# Altium footprint library Molex_Connectors_Pcb.PcbLib: 9 footprints
Each footprint in its own frame and in the unit in brackets; x right, y up, seen from the top. Pads: shape width x height; smd on the part's side, far side on the other; paste and mask are expansions set on the pad; w line width, h text height; cw(c..) or ccw(c..) is an arc to the next point about the centre after c.
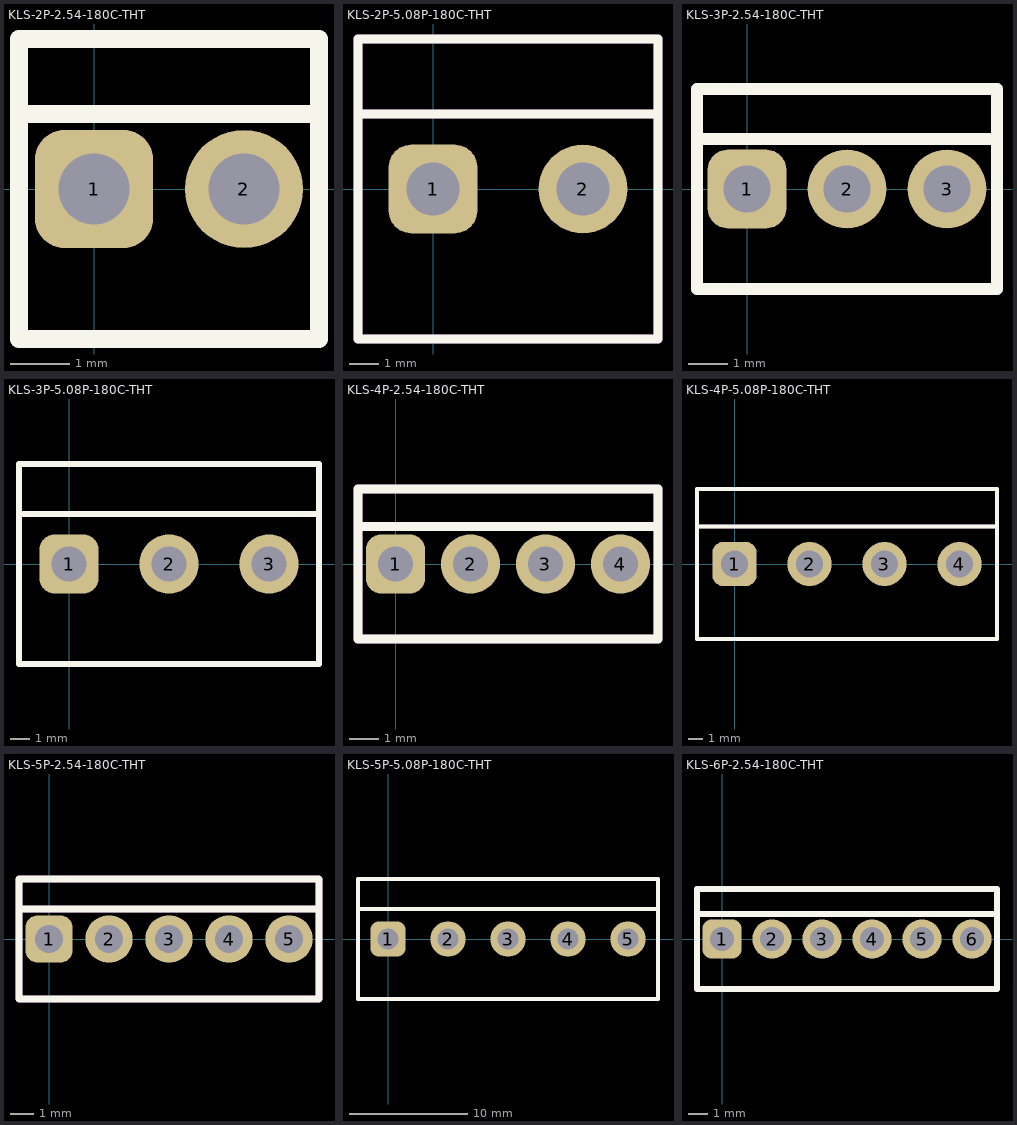
[diagram p0: the footprints below, top view; thin cyan lines are the x and y axes]

## KLS-2P-2.54-180C-THT [mm]
pads (2):
  rrect50% 2x2 hole 1.2: 1(0,0)
  round 2 hole 1.2: 2(2.54,0)
Top Overlay:
  lines w0.3: -1.27,1.27 3.81,1.27 ; -1.27,-2.54 -1.27,0 -1.27,2.54 3.81,2.54 3.81,-2.54 -1.27,-2.54
Mechanical 13:
  lines w0.3: -1.27,1.27 3.81,1.27 ; -1.27,-2.54 -1.27,0 -1.27,2.54 3.81,2.54 3.81,-2.54 -1.27,-2.54
  text ".Designator" at -0.675,-2.091 h1.5
Mechanical 15:
  lines w0.3: -1.27,-2.54 -1.27,0 -1.27,2.54 3.81,2.54 3.81,-2.54 -1.27,-2.54
3D body "User Library-Molex - 2-Pin Header with Lock (0_100in pitch).STEP": height 10.68, standoff -3.54, extent -1.27,-3.175 3.81,3.175

## KLS-2P-5.08P-180C-THT [mm]
pads (2):
  rrect50% 3x3 hole 1.8: 1(0,0)
  round 3 hole 1.8: 2(5.08,0)
Top Overlay:
  lines w0.3: -2.54,2.54 7.62,2.54 ; -2.54,-5.08 7.62,-5.08 7.62,5.08 -2.54,5.08 -2.54,0 -2.54,-5.08
Mechanical 13:
  lines w0.3: -2.54,2.54 7.62,2.54 ; -2.54,-5.08 7.62,-5.08 7.62,5.08 -2.54,5.08 -2.54,0 -2.54,-5.08
  text ".Designator" at -1.31,-3.361 h1.5
Mechanical 15:
  lines w0.3: -2.54,-5.08 7.62,-5.08 7.62,5.08 -2.54,5.08 -2.54,0 -2.54,-5.08
3D body "kls1-5_08P-2P-THT-Vertical.STEP": height 14.51, standoff -2.99, extent -2.54,-5.12 7.62,5.08

## KLS-3P-2.54-180C-THT [mm]
pads (3):
  rrect50% 2x2 hole 1.2: 1(0,0)
  round 2 hole 1.2: 2(2.54,0) 3(5.08,0)
Top Overlay:
  lines w0.3: -1.27,1.27 6.35,1.27 ; -1.27,-2.54 -1.27,0 -1.27,2.54 6.35,2.54 6.35,-2.54 -1.27,-2.54
Mechanical 13:
  lines w0.3: -1.27,1.27 6.35,1.27 ; -1.27,-2.54 -1.27,0 -1.27,2.54 6.35,2.54 6.35,-2.54 -1.27,-2.54
  text ".Designator" at -0.107,-2.094 h1.5
Mechanical 15:
  lines w0.3: -1.27,-2.54 -1.27,0 -1.27,2.54 6.35,2.54 6.35,-2.54 -1.27,-2.54
3D body "molex kk 0_1in latching 3 way vertical header.step": height 11.7, standoff -3.54, extent -1.27,-2.972 6.35,2.87

## KLS-3P-5.08P-180C-THT [mm]
pads (3):
  rrect50% 3x3 hole 1.8: 1(0,0)
  round 3 hole 1.8: 2(5.08,0) 3(10.16,0)
Top Overlay:
  lines w0.3: -2.54,2.54 12.7,2.54 ; -2.54,-5.08 12.7,-5.08 12.7,5.08 -2.54,5.08 -2.54,0 -2.54,-5.08
Mechanical 13:
  lines w0.3: -2.54,2.54 12.7,2.54 ; -2.54,-5.08 12.7,-5.08 12.7,5.08 -2.54,5.08 -2.54,0 -2.54,-5.08
  text ".Designator" at 1.23,-3.361 h1.5
Mechanical 15:
  lines w0.3: -2.54,-5.08 12.7,-5.08 12.7,5.08 -2.54,5.08 -2.54,0 -2.54,-5.08
3D body "kls1-5_08P-3P-THT-Vertical.STEP": height 14.51, standoff -2.99, extent -2.54,-5.12 12.7,5.08

## KLS-4P-2.54-180C-THT [mm]
pads (4):
  rrect50% 2x2 hole 1.2: 1(0,0)
  round 2 hole 1.2: 2(2.54,0) 3(5.08,0) 4(7.62,0)
Top Overlay:
  lines w0.3: -1.27,1.27 8.89,1.27 ; -1.27,-2.54 -1.27,0 -1.27,2.54 8.89,2.54 8.89,-2.54 -1.27,-2.54
Mechanical 13:
  lines w0.3: -1.27,1.27 8.89,1.27 ; -1.27,-2.54 -1.27,0 -1.27,2.54 8.89,2.54 8.89,-2.54 -1.27,-2.54
  text ".Designator" at 0.528,-2.094 h1.5
Mechanical 15:
  lines w0.3: -1.27,-2.54 -1.27,0 -1.27,2.54 8.89,2.54 8.89,-2.54 -1.27,-2.54
3D body "molex kk 0_1in latching 4 way vertical header.step": height 11.7, standoff -3.54, extent -1.27,-2.972 8.89,2.87

## KLS-4P-5.08P-180C-THT [mm]
pads (4):
  rrect50% 3x3 hole 1.8: 1(0,0)
  round 3 hole 1.8: 2(5.08,0) 3(10.16,0) 4(15.24,0)
Top Overlay:
  lines w0.3: -2.54,2.54 17.78,2.54 ; -2.54,-5.08 -2.54,0 -2.54,5.08 17.78,5.08 17.78,-5.08 -2.54,-5.08
Mechanical 13:
  lines w0.3: -2.54,2.54 17.78,2.54 ; -2.54,-5.08 -2.54,0 -2.54,5.08 17.78,5.08 17.78,-5.08 -2.54,-5.08
  text ".Designator" at 3.703,-3.364 h1.5
Mechanical 15:
  lines w0.3: -2.54,-5.08 -2.54,0 -2.54,5.08 17.78,5.08 17.78,-5.08 -2.54,-5.08
3D body "kls1-5_08P-4P-THT-Vertical.STEP": height 14.51, standoff -2.99, extent -2.54,-5.08 17.78,5.12

## KLS-5P-2.54-180C-THT [mm]
pads (5):
  rrect50% 2x2 hole 1.2: 1(0,0)
  round 2 hole 1.2: 2(2.54,0) 3(5.08,0) 4(7.62,0) 5(10.16,0)
Top Overlay:
  lines w0.3: -1.27,1.27 11.43,1.27 ; -1.27,-2.54 -1.27,0 -1.27,2.54 11.43,2.54 11.43,-2.54 -1.27,-2.54
Mechanical 13:
  lines w0.3: -1.27,1.27 11.43,1.27 ; -1.27,-2.54 -1.27,0 -1.27,2.54 11.43,2.54 11.43,-2.54 -1.27,-2.54
  text ".Designator" at 1.798,-2.094 h1.5
Mechanical 15:
  lines w0.3: -1.27,-2.54 -1.27,0 -1.27,2.54 11.43,2.54 11.43,-2.54 -1.27,-2.54
3D body "molex kk 0_1in latching 5 way vertical header.step": height 11.7, standoff -3.54, extent -1.27,-2.972 11.43,2.87

## KLS-5P-5.08P-180C-THT [mm]
pads (5):
  rrect50% 3x3 hole 1.8: 1(0,0)
  round 3 hole 1.8: 2(5.08,0) 3(10.16,0) 4(15.24,0) 5(20.32,0)
Top Overlay:
  lines w0.3: -2.54,2.54 22.86,2.54 ; -2.54,-5.08 22.86,-5.08 22.86,5.08 -2.54,5.08 -2.54,0 -2.54,-5.08
Mechanical 13:
  lines w0.3: -2.54,2.54 22.86,2.54 ; -2.54,-5.08 22.86,-5.08 22.86,5.08 -2.54,5.08 -2.54,0 -2.54,-5.08
  text ".Designator" at 6.243,-3.364 h1.5
Mechanical 15:
  lines w0.3: -2.54,-5.08 22.86,-5.08 22.86,5.08 -2.54,5.08 -2.54,0 -2.54,-5.08
3D body "kls1-5_08P-5P-THT-Vertical.STEP": height 14.51, standoff -2.99, extent -2.54,-5.12 22.86,5.08

## KLS-6P-2.54-180C-THT [mm]
pads (6):
  rrect50% 2x2 hole 1.2: 1(0,0)
  round 2 hole 1.2: 2(2.54,0) 3(5.08,0) 4(7.62,0) 5(10.16,0) 6(12.7,0)
Top Overlay:
  lines w0.3: -1.27,1.27 13.97,1.27 ; -1.27,-2.54 -1.27,0 -1.27,2.54 13.97,2.54 13.97,-2.54 -1.27,-2.54
Mechanical 13:
  lines w0.3: -1.27,1.27 13.97,1.27 ; -1.27,-2.54 -1.27,0 -1.27,2.54 13.97,2.54 13.97,-2.54 -1.27,-2.54
  text ".Designator" at 2.433,-2.094 h1.5
Mechanical 15:
  lines w0.2: -1.27,-2.54 -1.27,0 -1.27,2.54 13.97,2.54 13.97,-2.54 -1.27,-2.54
3D body "molex kk 0_1in latching 6 way vertical header.step": height 11.7, standoff -3.54, extent -1.27,-2.972 13.97,2.87